# EAGLE library part ER-OLED0.96 (library ER-OLED0.96)
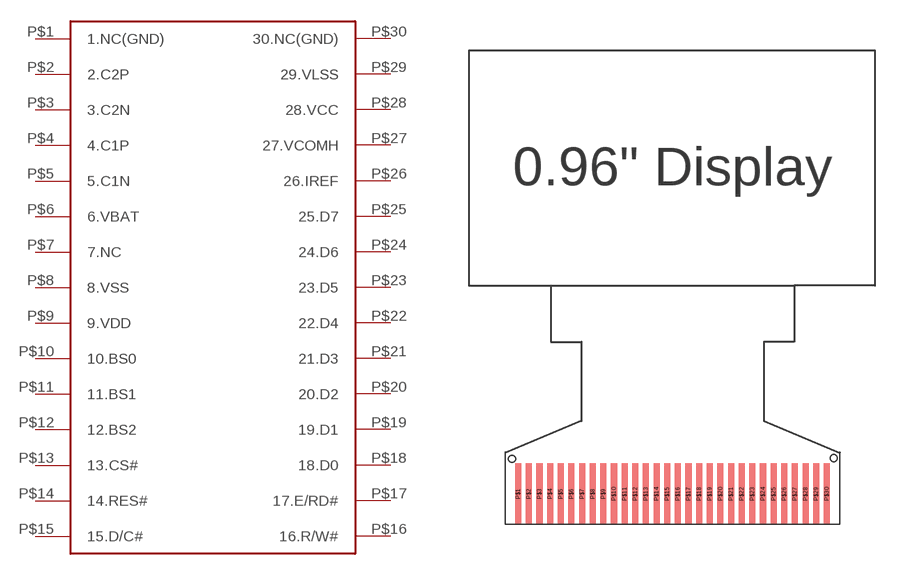
[diagram p0: symbol with the pads of ER-OLED0.96; footprint ER-OLED0.96]

Designator prefix -

## ER-OLED0.96  [ER-OLED0.96]
P$1  1.NC(GND)
P$2  2.C2P
P$3  3.C2N
P$4  4.C1P
P$5  5.C1N
P$6  6.VBAT
P$7  7.NC
P$8  8.VSS
P$9  9.VDD
P$10  10.BS0
P$11  11.BS1
P$12  12.BS2
P$13  13.CS#
P$14  14.RES#
P$15  15.D/C#
P$16  16.R/W#
P$17  17.E/RD#
P$18  18.D0
P$19  19.D1
P$20  20.D2
P$21  21.D3
P$22  22.D4
P$23  23.D5
P$24  24.D6
P$25  25.D7
P$26  26.IREF
P$27  27.VCOMH
P$28  28.VCC
P$29  29.VLSS
P$30  30.NC(GND)

## Footprint ER-OLED0.96 (pad centres in mm)
smd 0.4 x 4: P$1 0.85,2; P$2 1.55,2; P$3 2.25,2; P$4 2.95,2; P$5 3.65,2; P$6 4.35,2; P$7 5.05,2; P$8 5.75,2; P$9 6.45,2; P$10 7.15,2; P$11 7.85,2; P$12 8.55,2; P$13 9.25,2; P$14 9.95,2; P$15 10.65,2; P$16 11.35,2; P$17 12.05,2; P$18 12.75,2; P$19 13.45,2; P$20 14.15,2; P$21 14.85,2; P$22 15.55,2; P$23 16.25,2; P$24 16.95,2; P$25 17.65,2; P$26 18.35,2; P$27 19.05,2; P$28 19.75,2; P$29 20.45,2; P$30 21.15,2